# Altium footprint library Raspberry Pi Compute Module 3.PcbLib: 1 footprints
Each footprint in its own frame and in the unit in brackets; x right, y up, seen from the top. Pads: shape width x height; smd on the part's side, far side on the other; paste and mask are expansions set on the pad; w line width, h text height; cw(c..) or ccw(c..) is an arc to the next point about the centre after c.
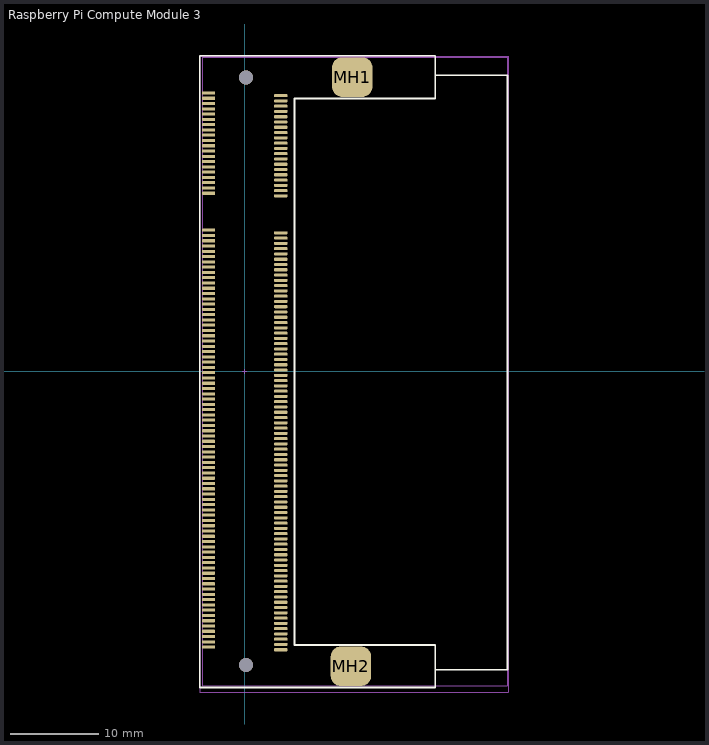
[diagram p0: the footprint, top view; thin cyan lines are the x and y axes]

## Raspberry Pi Compute Module 3 [mm]
pads (202):
  rrect50% 1.5x0.35 smd mask+0.07: 1(-4.1,31.65) 2(4.1,31.35) 3(-4.1,31.05) 4(4.1,30.75) 5(-4.1,30.45) 6(4.1,30.15) 7(-4.1,29.85) 8(4.1,29.55) 9(-4.1,29.25) 10(4.1,28.95) 11(-4.1,28.65) 12(4.1,28.35) 13(-4.1,28.05) 14(4.1,27.75) 15(-4.1,27.45) 16(4.1,27.15) 17(-4.1,26.85) 18(4.1,26.55) 19(-4.1,26.25) 20(4.1,25.95) 21(-4.1,25.65) 22(4.1,25.35) 23(-4.1,25.05) 24(4.1,24.75) 25(-4.1,24.45) 26(4.1,24.15) 27(-4.1,23.85) 28(4.1,23.55) 29(-4.1,23.25) 30(4.1,22.95) 31(-4.1,22.65) 32(4.1,22.35) 33(-4.1,22.05) 34(4.1,21.75) 35(-4.1,21.45) 36(4.1,21.15) 37(-4.1,20.85) 38(4.1,20.55) 39(-4.1,20.25) 40(4.1,19.95) 41(-4.1,16.05) 42(4.1,15.75) 43(-4.1,15.45) 44(4.1,15.15) 45(-4.1,14.85) 46(4.1,14.55) 47(-4.1,14.25) 48(4.1,13.95) 49(-4.1,13.65) 50(4.1,13.35) 51(-4.1,13.05) 52(4.1,12.75) 53(-4.1,12.45) 54(4.1,12.15) 55(-4.1,11.85) 56(4.1,11.55) 57(-4.1,11.25) 58(4.1,10.95) 59(-4.1,10.65) 60(4.1,10.35) 61(-4.1,10.05) 62(4.1,9.75) 63(-4.1,9.45) 64(4.1,9.15) 65(-4.1,8.85) 66(4.1,8.55) 67(-4.1,8.25) 68(4.1,7.95) 69(-4.1,7.65) 70(4.1,7.35) 71(-4.1,7.05) 72(4.1,6.75) 73(-4.1,6.45) 74(4.1,6.15) 75(-4.1,5.85) 76(4.1,5.55) 77(-4.1,5.25) 78(4.1,4.95) 79(-4.1,4.65) 80(4.1,4.35) 81(-4.1,4.05) 82(4.1,3.75) 83(-4.1,3.45) 84(4.1,3.15) 85(-4.1,2.85) 86(4.1,2.55) 87(-4.1,2.25) 88(4.1,1.95) 89(-4.1,1.65) 90(4.1,1.35) 91(-4.1,1.05) 92(4.1,0.75) 93(-4.1,0.45) 94(4.1,0.15) 95(-4.1,-0.15) 96(4.1,-0.45) 97(-4.1,-0.75) 98(4.1,-1.05) 99(-4.1,-1.35) 100(4.1,-1.65) 101(-4.1,-1.95) 102(4.1,-2.25) 103(-4.1,-2.55) 104(4.1,-2.85) 105(-4.1,-3.15) 106(4.1,-3.45) 107(-4.1,-3.75) 108(4.1,-4.05) 109(-4.1,-4.35) 110(4.1,-4.65) 111(-4.1,-4.95) 112(4.1,-5.25) 113(-4.1,-5.55) 114(4.1,-5.85) 115(-4.1,-6.15) 116(4.1,-6.45) 117(-4.1,-6.75) 118(4.1,-7.05) 119(-4.1,-7.35) 120(4.1,-7.65) 121(-4.1,-7.95) 122(4.1,-8.25) 123(-4.1,-8.55) 124(4.1,-8.85) 125(-4.1,-9.15) 126(4.1,-9.45) 127(-4.1,-9.75) 128(4.1,-10.05) 129(-4.1,-10.35) 130(4.1,-10.65) 131(-4.1,-10.95) 132(4.1,-11.25) 133(-4.1,-11.55) 134(4.1,-11.85) 135(-4.1,-12.15) 136(4.1,-12.45) 137(-4.1,-12.75) 138(4.1,-13.05) 139(-4.1,-13.35) 140(4.1,-13.65) 141(-4.1,-13.95) 142(4.1,-14.25) 143(-4.1,-14.55) 144(4.1,-14.85) 145(-4.1,-15.15) 146(4.1,-15.45) 147(-4.1,-15.75) 148(4.1,-16.05) 149(-4.1,-16.35) 150(4.1,-16.65) 151(-4.1,-16.95) 152(4.1,-17.25) 153(-4.1,-17.55) 154(4.1,-17.85) 155(-4.1,-18.15) 156(4.1,-18.45) 157(-4.1,-18.75) 158(4.1,-19.05) 159(-4.1,-19.35) 160(4.1,-19.65) 161(-4.1,-19.95) 162(4.1,-20.25) 163(-4.1,-20.55) 164(4.1,-20.85) 165(-4.1,-21.15) 166(4.1,-21.45) 167(-4.1,-21.75) 168(4.1,-22.05) 169(-4.1,-22.35) 170(4.1,-22.65) 171(-4.1,-22.95) 172(4.1,-23.25) 173(-4.1,-23.55) 174(4.1,-23.85) 175(-4.1,-24.15) 176(4.1,-24.45) 177(-4.1,-24.75) 178(4.1,-25.05) 179(-4.1,-25.35) 180(4.1,-25.65) 181(-4.1,-25.95) 182(4.1,-26.25) 183(-4.1,-26.55) 184(4.1,-26.85) 185(-4.1,-27.15) 186(4.1,-27.45) 187(-4.1,-27.75) 188(4.1,-28.05) 189(-4.1,-28.35) 190(4.1,-28.65) 191(-4.1,-28.95) 192(4.1,-29.25) 193(-4.1,-29.55) 194(4.1,-29.85) 195(-4.1,-30.15) 196(4.1,-30.45) 197(-4.1,-30.75) 198(4.1,-31.05) 199(-4.1,-31.35) 200(4.1,-31.65)
  rrect50% 4.6x4.5 smd mask+0.07: MH1(12.225,33.45) MH2(12.075,-33.525)
via 0.125,33.4 diameter 1.6 hole 1.6
via 0.125,-33.4 diameter 1.6 hole 1.6
Top Overlay:
  lines w0.2: 21.65,-33.925 21.65,-31.125 5.675,-31.125 5.675,31.025 21.675,31.025 21.675,33.675 ; 21.65,-33.925 29.875,-33.925 29.875,33.675 21.675,33.675 ; 21.65,-33.925 21.65,-35.95 -5.1,-35.95 -5.1,35.875 21.675,35.875 21.675,35.775 21.675,33.675
Mechanical 13:
  lines w0.051: -4.85,-35.761 -4.85,35.739 29.875,35.739 29.875,-35.761 -4.85,-35.761
Mechanical 15:
  lines w0.127: -0.254,0 0.254,0 ; 0,-0.254 0,0.254 ; -5.1,-36.475 -5.1,35.825 29.95,35.825 29.95,-36.475 -5.1,-36.475
3D body "User Library-compute_module.step": height 4, standoff 2.5, extent -0.125,-33.925 29.875,33.675
3D body "c-1473149-4-k2-3d.stp": height 5.76, standoff -0.66, extent -4.86,-35.761 21.68,35.739